# EAGLE library part 27C322 (library custom)
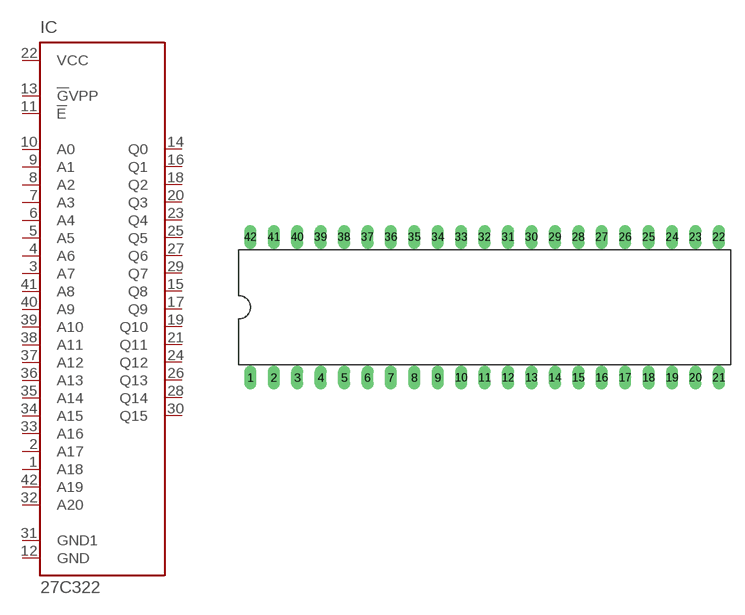
[diagram p0: symbol with the pads of FDIP42W; footprint FDIP42W]

Designator prefix IC

## 27C322  [FDIP42W]
1  A18  in
2  A17  in
3  A7  in
4  A6  in
5  A5  in
6  A4  in
7  A3  in
8  A2  in
9  A1  in
10  A0  in
11  !E  in
12  GND  pwr
13  !G!VPP  in
14  Q0  hiz
15  Q8  hiz
16  Q1  hiz
17  Q9  hiz
18  Q2  hiz
19  Q10  hiz
20  Q3  hiz
21  Q11  hiz
22  VCC  pwr
23  Q4  hiz
24  Q12  hiz
25  Q5  hiz
26  Q13  hiz
27  Q6  hiz
28  Q14  hiz
29  Q7  hiz
30  Q15  hiz
31  GND1  pwr
32  A20  in
33  A16  in
34  A15  in
35  A14  in
36  A13  in
37  A12  in
38  A11  in
39  A10  in
40  A9  in
41  A8  in
42  A19  in

## Footprint FDIP42W (pad centres in mm)
drill 0.813 long: 1 -21.59,-7.62; 2 -19.05,-7.62; 3 -16.51,-7.62; 4 -13.97,-7.62; 5 -11.43,-7.62; 6 -8.89,-7.62; 7 -6.35,-7.62; 8 -3.81,-7.62; 9 -1.27,-7.62; 10 1.27,-7.62; 11 3.81,-7.62; 12 6.35,-7.62; 13 8.89,-7.62; 14 11.43,-7.62; 15 13.97,-7.62; 16 16.51,-7.62; 17 19.05,-7.62; 18 21.59,-7.62; 19 24.13,-7.62; 20 26.67,-7.62; 21 29.21,-7.62; 22 29.21,7.62; 23 26.67,7.62; 24 24.13,7.62; 25 21.59,7.62; 26 19.05,7.62; 27 16.51,7.62; 28 13.97,7.62; 29 11.43,7.62; 30 8.89,7.62; 31 6.35,7.62; 32 3.81,7.62; 33 1.27,7.62; 34 -1.27,7.62; 35 -3.81,7.62; 36 -6.35,7.62; 37 -8.89,7.62; 38 -11.43,7.62; 39 -13.97,7.62; 40 -16.51,7.62; 41 -19.05,7.62; 42 -21.59,7.62